# EAGLE library part Q48SC12050NRDH (library AUX, Power Bricks Quarter Delta - Q48SC12050NRDH)
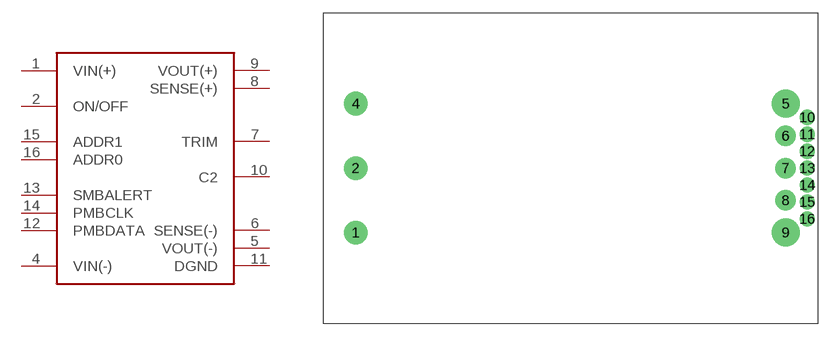
[diagram p0: symbol with the pads of Q48SC12050NRDH; footprint Q48SC12050NRDH]

Designator prefix -

## Q48SC12050NRDH  [Q48SC12050NRDH]
1  VIN(+)
2  ON/OFF
4  VIN(-)
5  VOUT(-)
6  SENSE(-)
7  TRIM
8  SENSE(+)
9  VOUT(+)
10  C2
11  DGND
12  PMBDATA
13  SMBALERT
14  PMBCLK
15  ADDR1
16  ADDR0

## Footprint Q48SC12050NRDH (pad centres in mm)
drill 1.6 pad 2.794: 1 0,0; 2 0,7.62; 4 0,15.24
drill 2.1 pad 3.302: 5 50.8,15.24; 9 50.8,0
drill 1.6: 6 50.8,11.43; 7 50.8,7.62; 8 50.8,3.81
drill 1.2: 10 53.34,13.62; 11 53.34,11.62; 12 53.34,9.62; 13 53.34,7.62; 14 53.34,5.62; 15 53.34,3.62; 16 53.34,1.62